# EAGLE library part AVR-ISP (library innove-con-standard)
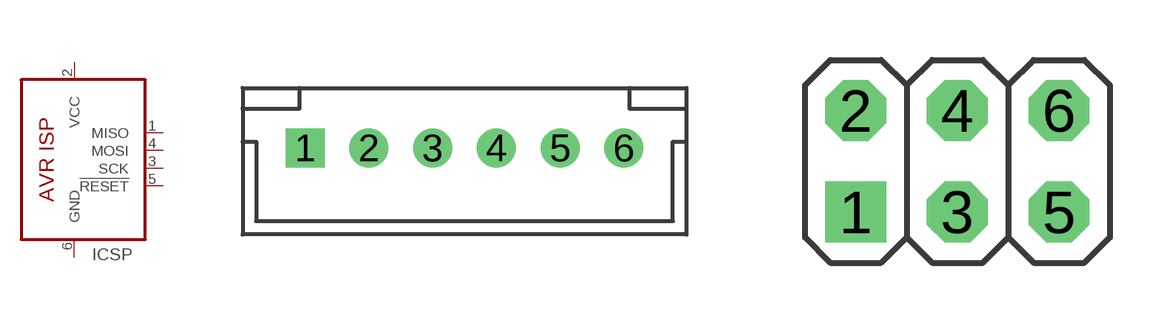
[diagram p1: symbol with the pads of B6B-XH-A; footprints B6B-XH-A, 2X03]

Designator prefix ICSP

## AVR-ISP-JST  [B6B-XH-A]
1  MISO  pas
2  VCC  pwr
3  SCK  pas
4  MOSI  pas
5  !RESET  pas
6  GND  pwr

## AVR-ISP-PH  [2X03]
Pads as for B6B-XH-A

## AVR-ISP-PHV  [2X03/90]
Pads as for B6B-XH-A

## Footprint B6B-XH-A (pad centres in mm)
drill 1.016 square: 1 -6.25,0
drill 1.016: 2 -3.75,0; 3 -1.25,0; 4 1.25,0; 5 3.75,0; 6 6.25,0

## Footprint 2X03 (pad centres in mm)
PIN HEADER
drill 1.016 square: 1 -2.54,-1.27
drill 1.016 octagon: 2 -2.54,1.27; 3 0,-1.27; 4 0,1.27; 5 2.54,-1.27; 6 2.54,1.27

## Footprint 2X03/90 (pad centres in mm)
PIN HEADER
drill 1.016 square: 1 -2.54,-6.35
drill 1.016 octagon: 2 -2.54,-3.81; 3 0,-6.35; 4 0,-3.81; 5 2.54,-6.35; 6 2.54,-3.81